# EAGLE library part HMC5883 (library IC)
http://www.mcuol.com/download/upfile/20100524052222_HMC5883.pdf
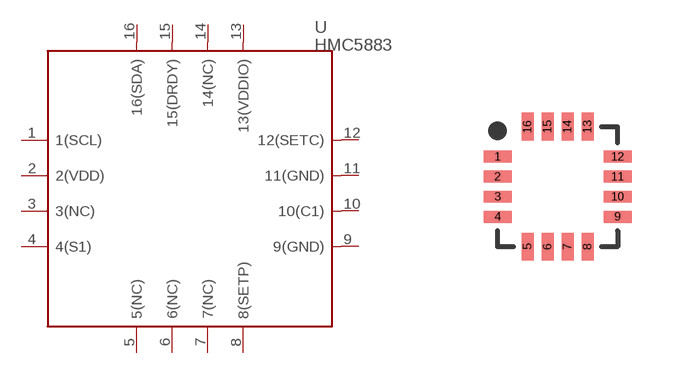
[diagram p54: symbol with the pads of LCC16; footprint LCC16]

Designator prefix U

## HMC5883HMC5883  [LCC16]
1  1(SCL)
2  2(VDD)  sup
3  3(NC)  nc
4  4(S1)
5  5(NC)  nc
6  6(NC)  nc
7  7(NC)  nc
8  8(SETP)
9  9(GND)  pwr
10  10(C1)
11  11(GND)  sup
12  12(SETC)
13  13(VDDIO)  sup
14  14(NC)  nc
15  15(DRDY)
16  16(SDA)

## Footprint LCC16 (pad centres in mm)
smd 0.7 x 0.3: 1 0,2.25; 2 0,1.75; 3 0,1.25; 4 0,0.75; 9 3,0.75; 10 3,1.25; 11 3,1.75; 12 3,2.25
smd 0.3 x 0.7: 5 0.75,0; 6 1.25,0; 7 1.75,0; 8 2.25,0; 13 2.25,3; 14 1.75,3; 15 1.25,3; 16 0.75,3